# EAGLE library part MCP4922-E/SL (library Z_GessIOMod)
IC, 12BIT DAC DUAL, SPI I/F
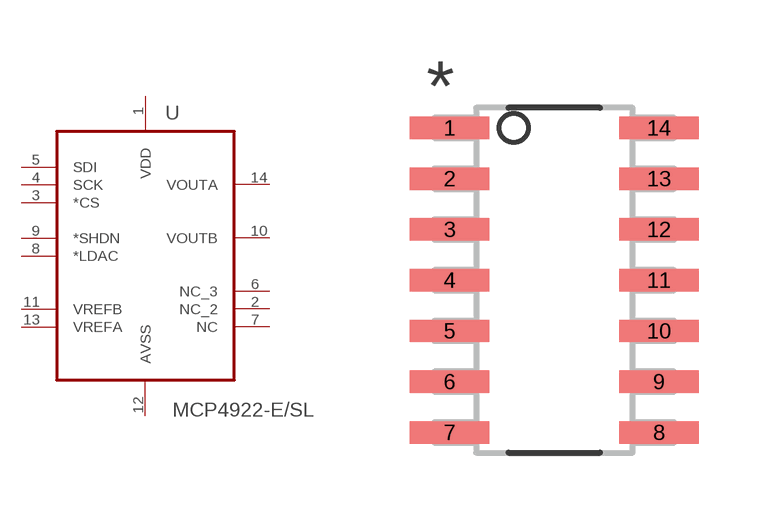
[diagram p1: symbol with the pads of SOIC127P600X175-14N; footprint SOIC127P600X175-14N]

Designator prefix U

## MCP4922-E/SL (MPN: MCP4922-E/SL; OC_FARNELL: 1332114; OC_NEWARK: 08J8748; PACKAGE: SOIC14; SUPPLIER: Microchip)  [SOIC127P600X175-14N]
1  VDD  pwr
2  NC_2  nc
3  *CS  in
4  SCK  in
5  SDI  in
6  NC_3  nc
7  NC  nc
8  *LDAC  in
9  *SHDN  in
10  VOUTB  out
11  VREFB  in
12  AVSS  pas
13  VREFA  in
14  VOUTA  out

## Footprint SOIC127P600X175-14N (pad centres in mm)
smd 1.981 x 0.559: 1 -2.616,3.81; 2 -2.616,2.54; 3 -2.616,1.27; 4 -2.616,0; 5 -2.616,-1.27; 6 -2.616,-2.54; 7 -2.616,-3.81; 8 2.616,-3.81; 9 2.616,-2.54; 10 2.616,-1.27; 11 2.616,0; 12 2.616,1.27; 13 2.616,2.54; 14 2.616,3.81